# Altium footprint library ESMARC V5.0.PcbLib: 59 footprints (part 3 of 4)
Each footprint in its own frame and in the unit in brackets; x right, y up, seen from the top. Pads: shape width x height; smd on the part's side, far side on the other; paste and mask are expansions set on the pad; w line width, h text height; cw(c..) or ccw(c..) is an arc to the next point about the centre after c.
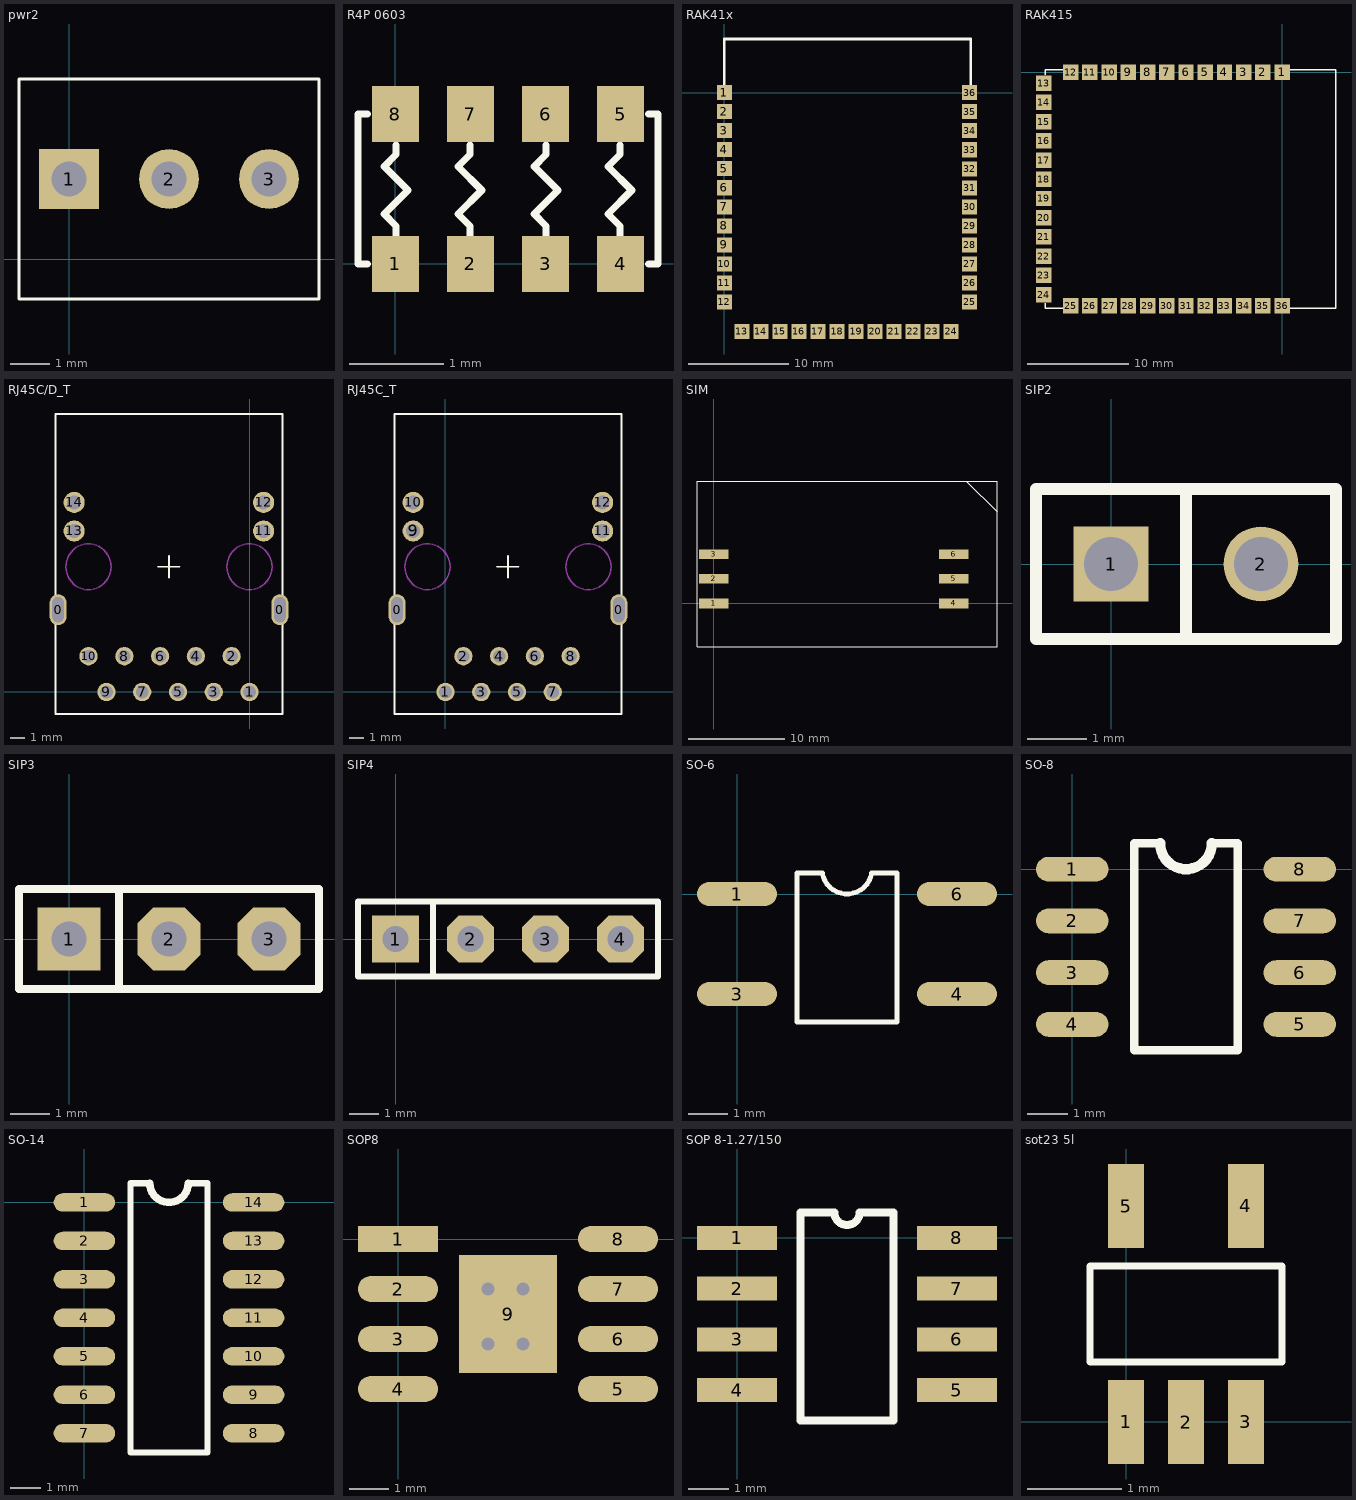
[diagram p2: the footprints below, top view; thin cyan lines are the x and y axes]

## pwr2 [mil]
pads (3):
  rect 60x60 hole 35: 1(0,80)
  round 60 hole 35: 2(100,80) 3(200,80)
Top Overlay:
  lines w3: -50,-40 -50,180 250,180 250,-40 -50,-40
Bottom Overlay:
  lines w3: -40,41 -40,115 -36,119 38,119 40,117 40,43 38,41 -40,41

## R4P 0603 [mm]
pads (8):
  rect 0.5x0.6 smd: 1(0,0) 2(0.8,0) 3(1.6,0) 4(2.4,0) 5(2.4,1.6) 6(1.6,1.6) 7(0.8,1.6) 8(0,1.6)
Top Overlay:
  lines w0.076: -0.299,0 -0.4,0 -0.4,1.6 -0.299,1.6 ; 0.006,0.305 0.006,0.406 -0.121,0.533 0.133,0.787 -0.121,1.041 0.006,1.168 0.006,1.27 ; 0.794,0.305 0.794,0.406 0.667,0.533 0.921,0.787 0.667,1.041 0.794,1.168 0.794,1.27 ; 1.607,0.305 1.607,0.406 1.48,0.533 1.734,0.787 1.48,1.041 1.607,1.168 1.607,1.27 ; 2.394,0.305 2.394,0.406 2.267,0.533 2.521,0.787 2.267,1.041 2.394,1.168 2.394,1.27 ; 2.699,0 2.8,0 2.8,1.6 2.699,1.6

## RAK41x [mm]
pads (36):
  rect 1.5x1.5 all layers, no hole: 1(0,0) 2(0,-1.9) 3(0,-3.8) 4(0,-5.7) 5(0,-7.6) 6(0,-9.5) 7(0,-11.4) 8(0,-13.3) 9(0,-15.2) 10(0,-17.1) 11(0,-19) 12(0,-20.9) 13(1.751,-23.849) 14(3.651,-23.849) 15(5.551,-23.849) 16(7.451,-23.849) 17(9.351,-23.849) 18(11.251,-23.849) 19(13.151,-23.849) 20(15.051,-23.849) 21(16.951,-23.849) 22(18.851,-23.849) 23(20.751,-23.849) 24(22.651,-23.849) 25(24.493,-20.905) 26(24.493,-19.005) 27(24.493,-17.105) 28(24.493,-15.205) 29(24.493,-13.305) 30(24.493,-11.405) 31(24.493,-9.505) 32(24.493,-7.605) 33(24.493,-5.705) 34(24.493,-3.805) 35(24.493,-1.9) 36(24.493,0)
Top Overlay:
  lines w0.254: 0,0 0,5.35 24.62,5.35 24.62,0

## RAK415 [mm]
height 3.4
pads (36):
  rect 1.53x1.53 smd: 1(0,0) 2(-1.905,0) 3(-3.81,0) 4(-5.715,0) 5(-7.62,0) 6(-9.525,0) 7(-11.43,0) 8(-13.335,0) 9(-15.24,0) 10(-17.145,0) 11(-19.05,0) 12(-20.955,0) 13(-23.622,-1.067) 14(-23.622,-2.972) 15(-23.622,-4.877) 16(-23.622,-6.782) 17(-23.622,-8.687) 18(-23.622,-10.592) 19(-23.622,-12.497) 20(-23.622,-14.402) 21(-23.622,-16.307) 22(-23.622,-18.212) 23(-23.622,-20.117) 24(-23.622,-22.022) 25(-20.955,-23.114) 26(-19.05,-23.114) 27(-17.145,-23.114) 28(-15.24,-23.114) 29(-13.335,-23.114) 30(-11.43,-23.114) 31(-9.525,-23.114) 32(-7.62,-23.114) 33(-5.715,-23.114) 34(-3.81,-23.114) 35(-1.905,-23.114) 36(0,-23.114)
Top Overlay:
  lines w0.127: -23.495,-22.86 -23.495,-23.35 -21.717,-23.35 ; -23.495,-0.254 -23.495,0.254 -21.717,0.254 ; 0.762,-23.35 5.334,-23.35 5.334,0.254 0.762,0.254

## RJ45C/D_T [mm]
pads (16):
  oval 1.2x2.2 hole 0.8 slot 1.8 at 90 deg: 0(-13.594,5.842) 0(2.156,5.842)
  round 1.3 hole 0.9: 1(0,0) 2(-1.27,2.54) 3(-2.54,0) 4(-3.81,2.54) 5(-5.08,0) 6(-6.35,2.54) 7(-7.62,0) 8(-8.89,2.54) 9(-10.16,0) 10(-11.43,2.54)
  round 1.5 hole 1: 11(0.999,11.43) 12(0.999,13.46) 13(-12.451,11.43) 14(-12.451,13.46)
Top Overlay:
  lines w0.127: -6.502,8.89 -4.953,8.89 ; -5.72,8.103 -5.72,9.677 ; -13.768,-1.564 2.332,-1.564 2.332,19.736 -13.768,19.736 -13.768,-1.564
Keep-Out Layer:
  circle w0.076: c-11.435,8.89 r1.65
  circle w0.076: c-0.005,8.89 r1.65
Mechanical 1:
  circle w0.076: c-11.435,8.89 r1.6
  circle w0.076: c-0.005,8.89 r1.6

## RJ45C_T [mm]
pads (14):
  oval 1.2x2.2 hole 0.8 slot 1.8 at 90 deg: 0(-3.434,5.842) 0(12.316,5.842)
  round 1.3 hole 0.9: 1(0,0) 2(1.27,2.54) 3(2.54,0) 4(3.81,2.54) 5(5.08,0) 6(6.35,2.54) 7(7.62,0) 8(8.89,2.54)
  round 1.5 hole 1: 9(-2.291,11.43) 10(-2.291,13.46) 11(11.159,11.43) 12(11.159,13.46)
Top Overlay:
  lines w0.127: 3.658,8.89 5.207,8.89 ; 4.44,8.103 4.44,9.677 ; -3.608,-1.564 -3.608,19.736 12.492,19.736 12.492,-1.564 -3.608,-1.564
Keep-Out Layer:
  circle w0.076: c10.155,8.89 r1.65
  circle w0.076: c-1.275,8.89 r1.65
Mechanical 1:
  circle w0.076: c10.155,8.89 r1.6
  circle w0.076: c-1.275,8.89 r1.6

## SIM [mil]
pads (6):
  rect 120x40 smd: 1(0,0) 2(0,100) 3(0,200) 4(978,0) 5(978,100) 6(978,200)
Top Overlay:
  lines w3: 1030,498 1155,373 ; -68,-177 -20,-177 1155,-177 1155,423 1155,498 -20,498 -68,498 -68,-177

## SIP2 [mm]
pads (2):
  rect 1.27x1.27 hole 0.92: 1(0,0)
  round 1.27 hole 0.92: 2(2.54,0)
Top Overlay:
  lines w0.203: 1.27,-1.27 1.27,1.27 ; -1.27,-1.27 3.81,-1.27 3.81,1.27 -1.27,1.27 -1.27,-1.27

## SIP3 [mil]
pads (3):
  rect 63x63 hole 35: 1(0,0)
  oct 63x63 hole 35: 2(100,0) 3(200,0)
Top Overlay:
  lines w8: 50,-50 50,50 ; -50,-50 -50,50 250,50 250,-50 -50,-50

## SIP4 [mil]
pads (4):
  rect 63x63 hole 35: 1(0,0)
  oct 63x63 hole 35: 2(100,0) 3(200,0) 4(300,0)
Top Overlay:
  lines w8: 50,-50 50,50 ; -50,-50 -50,50 350,50 350,-50 -50,-50

## SO-6 [mil]
pads (4):
  oval 80x24 smd: 1(0,0) 3(0,-100) 4(220,-100) 6(220,0)
Top Overlay:
  lines w5: 85,21 60,21 60,-128 160,-128 160,21 135,21 ; 85.31,21.05 ccw(c110,25) 134.69,21.05

## SO-8 [mil]
pads (8):
  oval 70x24 smd: 1(0,0) 2(0,-50) 3(0,-100) 4(0,-150) 5(220,-150) 6(220,-100) 7(220,-50) 8(220,0)
Top Overlay:
  lines w8: 85,25 60,25 60,-175 160,-175 160,25 135,25
  lines w10: 85,25 ccw(c110,25) 135,25

## SO-14 [mil]
pads (14):
  oval 80x24 smd: 1(0,0) 2(0,-50) 3(0,-100) 4(0,-150) 5(0,-200) 6(0,-250) 7(0,-300) 8(220,-300) 9(220,-250) 10(220,-200) 11(220,-150) 12(220,-100) 13(220,-50) 14(220,0)
Top Overlay:
  lines w8: 85,25 60,25 60,-325 160,-325 160,25 135,25
  lines w10: 85,25 ccw(c110,25) 135,25

## SOP8 [mil]
pads (9):
  rect 80x26 smd: 1(0,0)
  oval 80x26 smd: 2(0,-50) 3(0,-100) 4(0,-150) 5(220,-150) 6(220,-100) 7(220,-50) 8(220,0)
  rect 98x118 all layers, no hole: 9(110,-75)
via 125,-50 diameter 13 hole 13
via 90,-50 diameter 13 hole 13
via 90,-105 diameter 13 hole 13
via 125,-105 diameter 13 hole 13

## SOP 8-1.27/150 [mm]
pads (8):
  rect 2x0.6 smd: 1(0,0) 2(0,-1.27) 3(0,-2.54) 4(0,-3.81) 5(5.5,-3.81) 6(5.5,-2.54) 7(5.5,-1.27) 8(5.5,0)
Top Overlay:
  lines w0.2: 1.585,-4.572 3.915,-4.572 3.915,0.635 3.067,0.635 cw(c2.75,0.635) 2.432,0.635 1.585,0.635 1.585,-4.572

## sot23 5l [mil]
pads (5):
  rect 15x35 smd: 1(0,0) 2(25,0) 3(50,0) 4(50,90) 5(0,90)
Top Overlay:
  lines w3: -15,25 65,25 65,65 -15,65 -15,25